# EAGLE library part FTDI_6P (library MCE_Conectores)
FTDI Basic Conecor 6 pines
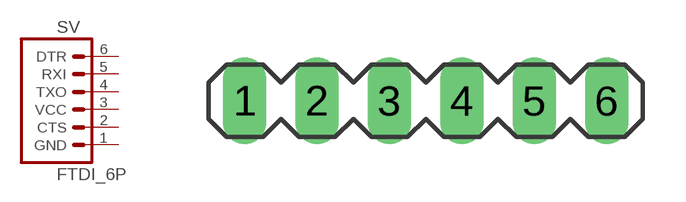
[diagram p2: symbol with the pads of MA06-1; footprint MA06-1]

Designator prefix SV

## FTDI_6P  [MA06-1]
1  GND  pas
2  CTS  pas
3  VCC  pas
4  TXO  pas
5  RXI  pas
6  DTR  pas

## Footprint MA06-1 (pad centres in mm)
PIN HEADER
drill 1.016 long: 1 -6.35,0; 2 -3.81,0; 3 -1.27,0; 4 1.27,0; 5 3.81,0; 6 6.35,0